# Altium schematic symbol library 22-12-2024.SchLib: 1 symbol
Pins are listed as number, name and electrical type; pins without a type are passive.

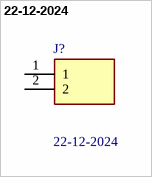
[diagram p0: symbol 22-12-2024]

## 22-12-2024
designator J?
Headers & Wire Housings R/A PCB HDR 2P GOLD FRICTION LOCK; Manufacturer_Name: Molex; Geometry.Height: 6.6mm; Mouser Part Number: 538-22-12-2024; Mouser Price/Stock: https://www.mouser.co.uk/ProductDetail/Molex/22-12-2024?qs=MuwpYaHj753tGAKgaPsRPQ%3D%3D; Manufacturer_Part_Number: 22-12-2024; Datasheet Link: https://www.molex.com/pdm_docs/sd/022122024_sd.pdf
footprint 22122024
pins: 1, 2